# EAGLE library part TMC32NP-MLP (library trinamic)
TRINAMIC miniature N & P channel MOSFET complementary pair Information given in this library is believed to be accurate and reliable. However no warranty is given for its correctness. Datasheet for TMC32NP <http://www.trinamic.com/tmc/media/Downloads/MOSFETs/TMC32NP-MLP_datasheet.pdf> Description The TMC32NP-MLP is a miniature N & P channel MOSFET complementary pair, ideally suited for motor drive applications. It perfectly complements the TMC239A-LA / TMC249A-LA stepper motor drivers, in order to build a 2A (4 devices) / 4A (8 devices) stepper motor driver the size of a stamp. Specifications Electrical data N type 0.12 Ω RDSon max. @ VGS= 10V 0.18 Ω RDSon max. @ VGS= 4.5V ID= 2.9A max. cont. current (MLP) ID= 2.7A max. cont. current (SM8) 30V VBRDSS max. Electrical data P type 0.21 Ω RDSon max. @ VGS= -10V 0.33 Ω RDSon max. @ VGS= -4.5V ID= -2.1A max. cont. current (MLP) ID= -2.0A max. cont. current (SM8) -30V VBRDSS max. Highlights Extremly compact package Low on resistance Low gate charge Applications stepper motor drives (in conjunction with TMC239 / TMC249) brushed DC motor drives (in conjunction with TMC239) Package chip size 2x3mm² dual die package MLP 8 pin SOT223 6.7x7mm² package SM8 RoHS compliant
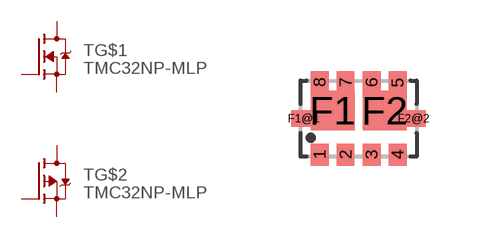
[diagram p26: symbol with the pads of MLP832; footprint MLP832]

Designator prefix T; gates G$1=TMC32NPMLP_N-MOSFET G$2=TMC32NP-MLP_P-MOSFET

## TMC32NP-MLP  [MLP832]
1  G$1:S1  pas
2  G$1:G1  pas
3  G$2:S2  pas
4  G$2:G2  pas
5  G$2:D2  pas
7  G$1:D1  pas

## Footprint MLP832 (pad centres in mm)
smd 0.44 x 0.55: 1 -0.975,-0.9; 2 -0.325,-0.9; 3 0.325,-0.9; 4 0.975,-0.9; 5 0.975,0.9; 6 0.325,0.9; 7 -0.325,0.9; 8 -0.975,0.9
smd 1.1 x 1: F1 -0.65,0.2; F2 0.65,0.2
smd 0.61 x 0.4: F1@1 -1.375,0; F2@2 1.375,0